# EAGLE library part LT3060?-* (library Alpha-Power)
Micropower, Low Noise, 100mA LDO, Linear Regulator
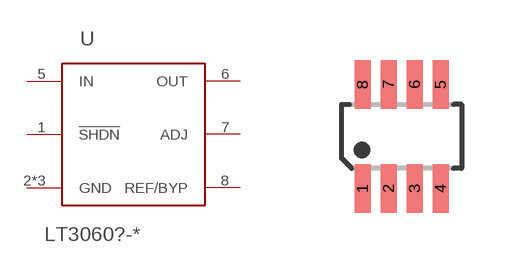
[diagram p6: symbol with the pads of TSOT-8-23; footprint TSOT-8-23]

Designator prefix U

## LT3060- (MPN: LT3060ITS8-15#TRMPBF; OC_FARNELL: 2471073; SUPPLIER: Linear Technology)  [TSOT-8-23]
1  !SHDN  in
2  GND  pwr
3  GND  pwr
4  GND  pwr
5  IN  pwr
6  OUT  pwr
7  ADJ  in
8  REF/BYP  in

## LT3060ITS8- (SUPPLIER: Linear Technology), LT3060ITS8-15 (MPN: LT3060ITS8-15#TRMPBF; OC_FARNELL: 2471073)  [TSOT-8-23]
Pads as for TSOT-8-23

## Footprint TSOT-8-23 (pad centres in mm)
smd 0.4 x 1.22: 1 -0.975,-1.3; 2 -0.325,-1.3; 3 0.325,-1.3; 4 0.975,-1.3; 5 0.975,1.3; 6 0.325,1.3; 7 -0.325,1.3; 8 -0.975,1.3